# EAGLE library part 6621XX230822_662110230822 (library 66200211022_Eagle_WR-MPC3_rev19b)
WR-MPC3 3.00 mm SMT Male Dual Row Angled Header with THT Retention Clip (Reel) KIND PROPERTIES Pitch 3 mm Gender Male MATERIAL PROPERTIES Insulator Material LCP Insulator Flammability Rating UL94 V-0 Insulator Color Black Contact Material Copper Alloy Contact Plating Tin Contact Type Stamped GENERAL INFORMATION Operating Temperature -40 up to +105 °C Compliance:RoHS Working Voltage 250 V (AC) Withstanding Voltage 1500 V (AC) Contact Resistance 10 mΩ RISO 1000 MΩ CERTIFICATION UL Approval E323964 WIRE PROPERTIES Packaging Tape and Reel <https://katalog.we-online.com/media/images/v2/o33175v209%20Family_WR-MPC3_662xxx230822.jpg> Details see: https://katalog.we-online.com/en/em/MPC3_3_00_SMT_MALE_DUAL_ROW_ANGLED_HEADER_W_THT_RETENTION_CLIP_REEL_6621XX230822 Created by Yingchun,Shan 2019-11-14 2019 (C) Würth Elektronik
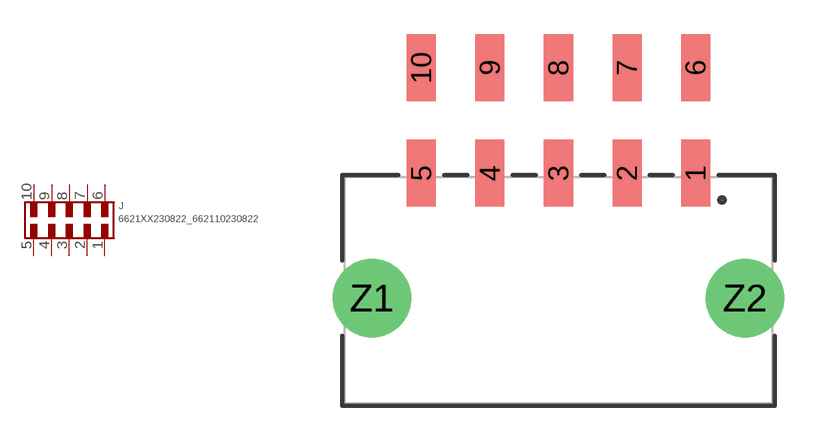
[diagram p122: symbol with the pads of 662110230822; footprint 662110230822]

Designator prefix J

## 6621XX230822_662110230822 (CONTACT-RESISTANCE: 10Ohm; DATASHEET-URL: https://katalog.we-online.com/em/datasheet/662110230822.pdf; GENDER: Male; IR1: 5A; L: 18.7mm; MATE-WITH: WR-MPC3 3.00 mm Female Dual Row Receptacle; MOUNT: SMT; PACKAGING: Tape and Reel; PART-NUMBER: 662110230822; PCB-CABLE-PANEL: PCB; PINS: 10; PITCH: 3mm; ROWS: Dual; TOL-R: max.; TYPE: Right Angled; WORKING-VOLTAGE: 250V(AC))  [662110230822]
1  1  pas
2  2  pas
3  3  pas
4  4  pas
5  5  pas
6  6  pas
7  7  pas
8  8  pas
9  9  pas
10  10  pas

## Footprint 662110230822 (pad centres in mm)
WR-MPC3 3.00 mm SMT Male Dual Row Angled Header with SMT Solder Tab (Reel),10 Pins
smd 1.27 x 2.92: 1 6,5.13; 2 3,5.13; 3 0,5.13; 4 -3,5.13; 5 -6,5.13; 6 6,9.75; 7 3,9.75; 8 0,9.75; 9 -3,9.75; 10 -6,9.75
drill 2.41: Z1 -8.16,-0.35; Z2 8.16,-0.35